# Altium integrated library ST Microcontroller 8-Bit.IntLib: 1326 symbols (part 1 of 45)
Pins are listed as number, name and electrical type; pins without a type are passive.

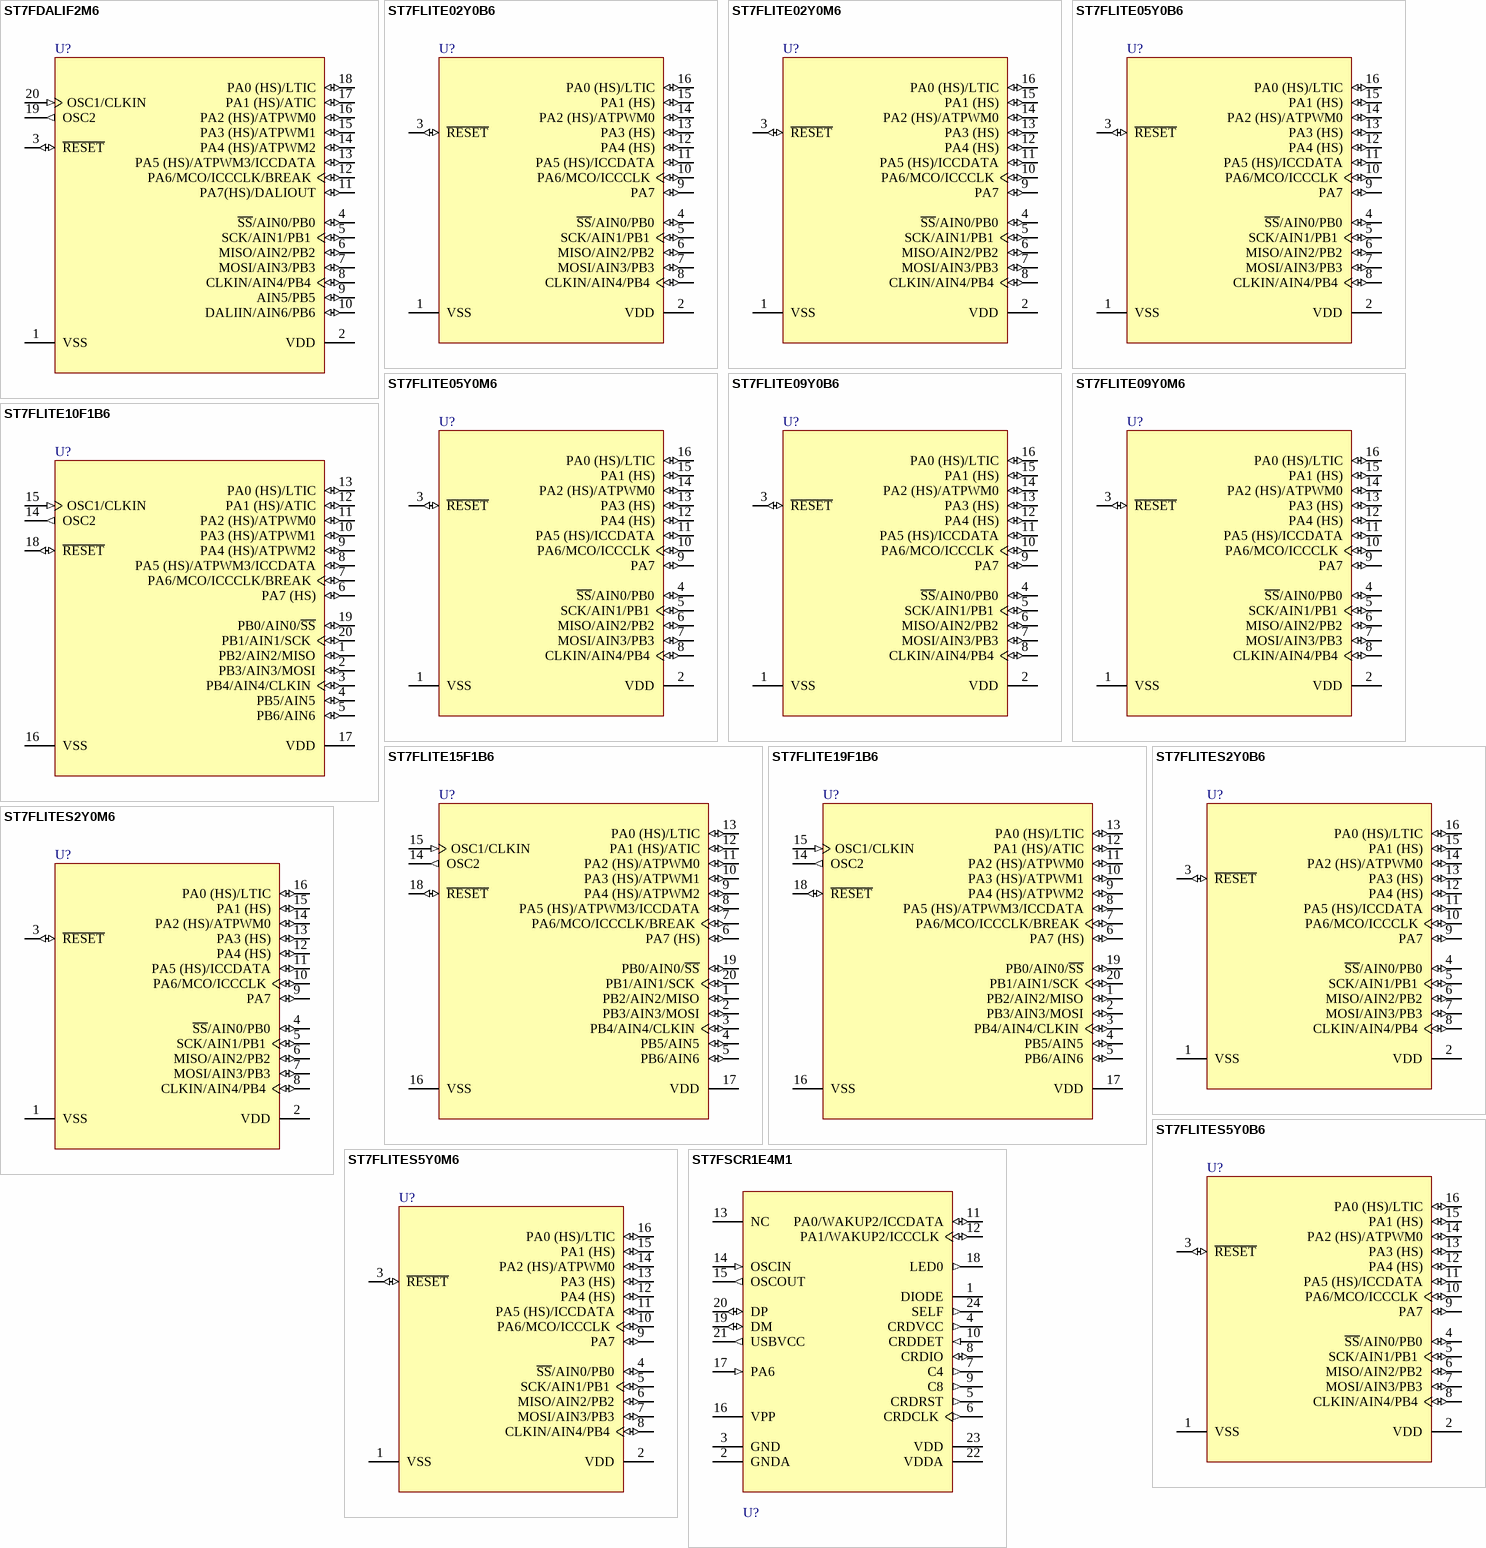
[diagram p0: symbols ST7FDALIF2M6 to ST7FSCR1E4M1]

## ST7FDALIF2M6
designator U?
8-Bit MCU with 8k Single Voltage FLASH Memory, 384b RAM, Data EEPROM, 10-Bit ADC, Timers, SPI and DALI, 20-Pin SOIC; Note: Pins 4-18 are External Interrupt (EI) pins.; Published: 26-May-2004; LatestRevisionDate: 13-Apr-2006; LatestRevisionNote: IPC-7351 Footprint Added.; DatasheetVersion: rev1.3, Aug-2003; PackageVersion: Jul-2001; PackageReference: SO20; Publisher: Altium Limited; PackageDescription: 20-Pin Plastic Small Outline Integrated Circuit 1.27 mm Pitch; Code_JEDEC: MS-013-AC; Code_IPC: SOIC127P1030-20; ComponentLink1Description: Manufacturer Link; ComponentLink1URL: http://www.st.com/; ComponentLink2Description: Datasheet; ComponentLink2URL: http://www.st.com/stonline/products/literature/ds/9480/st7dali.pdf
footprint SO20_N (SOIC, 20-Leads, Body 12.8x7.5mm, Pitch 1.27mm, IPC Medium Density)
footprint SO20_L (SOIC, 20-Leads, Body 12.8x7.5mm, Pitch 1.27mm, IPC High Density)
footprint SO20_M (SOIC, 20-Leads, Body 12.8x7.5mm, Pitch 1.27mm, IPC Low Density)
3D model SO20 (20-Pin Plastic Small Outline Integrated Circuit 1.27 mm Pitch)
pins: 1 VSS (power), 2 VDD (power), 3 ~{RESET} (io), 4 ~{SS}/AIN0/PB0 (io), 5 SCK/AIN1/PB1 (io), 6 MISO/AIN2/PB2 (io), 7 MOSI/AIN3/PB3 (io), 8 CLKIN/AIN4/PB4 (io), 9 AIN5/PB5 (io), 10 DALIIN/AIN6/PB6 (io), 11 PA7(HS)/DALIOUT (io), 12 PA6/MCO/ICCCLK/BREAK (io), 13 PA5 (HS)/ATPWM3/ICCDATA (io), 14 PA4 (HS)/ATPWM2 (io), 15 PA3 (HS)/ATPWM1 (io), 16 PA2 (HS)/ATPWM0 (io), 17 PA1 (HS)/ATIC (io), 18 PA0 (HS)/LTIC (io), 19 OSC2 (out), 20 OSC1/CLKIN (in)

## ST7FLITE02Y0B6
designator U?
8-Bit MCU with 1.5k Single Voltage FLASH Memory, 128b RAM, Timers and SPI, 16-Pin DIP; Note: Pins 4, 7, 9 and 16 are External Interrupt (EI) pins.; Published: 26-May-2004; LatestRevisionDate: 06-Jun-2005; LatestRevisionNote: Stylized 3D Model Added.; DatasheetVersion: rev2.5, Dec-2003; PackageVersion: Dec-2003; PackageReference: PDIP16; Publisher: Altium Limited; PackageDescription: DIP; 16 Leads; Row Spacing 7.62 mm; Pitch 2.54 mm; ComponentLink1Description: Manufacturer Link; ComponentLink1URL: http://www.st.com/; ComponentLink2Description: Datasheet; ComponentLink2URL: http://www.st.com/stonline/products/literature/ds/8348/st7lite0.pdf
footprint PDIP16 (DIP; 16 Leads; Row Spacing 7.62 mm; Pitch 2.54 mm)
3D model PDIP16 (DIP; 16 Leads; Row Spacing 7.62 mm; Pitch 2.54 mm)
pins: 1 VSS (power), 2 VDD (power), 3 ~{RESET} (io), 4 ~{SS}/AIN0/PB0 (io), 5 SCK/AIN1/PB1 (io), 6 MISO/AIN2/PB2 (io), 7 MOSI/AIN3/PB3 (io), 8 CLKIN/AIN4/PB4 (io), 9 PA7 (io), 10 PA6/MCO/ICCCLK (io), 11 PA5 (HS)/ICCDATA (io), 12 PA4 (HS) (io), 13 PA3 (HS) (io), 14 PA2 (HS)/ATPWM0 (io), 15 PA1 (HS) (io), 16 PA0 (HS)/LTIC (io)

## ST7FLITE02Y0M6
designator U?
8-Bit MCU with 1.5k Single Voltage FLASH Memory, 128b RAM, Timers and SPI, 16-Pin SOIC; Note: Pins 4, 7, 9 and 16 are External Interrupt (EI) pins.; Published: 26-May-2004; LatestRevisionDate: 13-Apr-2006; LatestRevisionNote: IPC-7351 Footprint Added.; DatasheetVersion: rev2.5, Dec-2003; PackageVersion: Dec-2003; PackageReference: PSO16; Publisher: Altium Limited; PackageDescription: 16-Pin Plastic Small Outline Integrated Circuit 1.27 mm Pitch; Code_JEDEC: MS-012-AC; Code_IPC: SOIC127P600-16; ComponentLink1Description: Manufacturer Link; ComponentLink1URL: http://www.st.com/; ComponentLink2Description: Datasheet; ComponentLink2URL: http://www.st.com/stonline/products/literature/ds/8348/st7lite0.pdf
footprint PSO16_N (SOIC, 16-Leads, Body 9.9x3.9mm, Pitch 1.27mm, IPC Medium Density)
footprint PSO16_L (SOIC, 16-Leads, Body 9.9x3.9mm, Pitch 1.27mm, IPC High Density)
footprint PSO16_M (SOIC, 16-Leads, Body 9.9x3.9mm, Pitch 1.27mm, IPC Low Density)
3D model PSO16 (16-Pin Plastic Small Outline Integrated Circuit 1.27 mm Pitch)
pins: 1 VSS (power), 2 VDD (power), 3 ~{RESET} (io), 4 ~{SS}/AIN0/PB0 (io), 5 SCK/AIN1/PB1 (io), 6 MISO/AIN2/PB2 (io), 7 MOSI/AIN3/PB3 (io), 8 CLKIN/AIN4/PB4 (io), 9 PA7 (io), 10 PA6/MCO/ICCCLK (io), 11 PA5 (HS)/ICCDATA (io), 12 PA4 (HS) (io), 13 PA3 (HS) (io), 14 PA2 (HS)/ATPWM0 (io), 15 PA1 (HS) (io), 16 PA0 (HS)/LTIC (io)

## ST7FLITE05Y0B6
designator U?
8-Bit MCU with 1.5k Single Voltage FLASH Memory, 128b RAM, 8-Bit ADC with Op-Amp, Timers and SPI, 16-Pin DIP; Note: Pins 4, 7, 9 and 16 are External Interrupt (EI) pins.; Published: 26-May-2004; LatestRevisionDate: 06-Jun-2005; LatestRevisionNote: Stylized 3D Model Added.; DatasheetVersion: rev2.5, Dec-2003; PackageVersion: Dec-2003; PackageReference: PDIP16; Publisher: Altium Limited; PackageDescription: DIP; 16 Leads; Row Spacing 7.62 mm; Pitch 2.54 mm; ComponentLink1Description: Manufacturer Link; ComponentLink1URL: http://www.st.com/; ComponentLink2Description: Datasheet; ComponentLink2URL: http://www.st.com/stonline/products/literature/ds/8348/st7lite0.pdf
footprint PDIP16 (DIP; 16 Leads; Row Spacing 7.62 mm; Pitch 2.54 mm)
3D model PDIP16 (DIP; 16 Leads; Row Spacing 7.62 mm; Pitch 2.54 mm)
pins: 1 VSS (power), 2 VDD (power), 3 ~{RESET} (io), 4 ~{SS}/AIN0/PB0 (io), 5 SCK/AIN1/PB1 (io), 6 MISO/AIN2/PB2 (io), 7 MOSI/AIN3/PB3 (io), 8 CLKIN/AIN4/PB4 (io), 9 PA7 (io), 10 PA6/MCO/ICCCLK (io), 11 PA5 (HS)/ICCDATA (io), 12 PA4 (HS) (io), 13 PA3 (HS) (io), 14 PA2 (HS)/ATPWM0 (io), 15 PA1 (HS) (io), 16 PA0 (HS)/LTIC (io)

## ST7FLITE05Y0M6
designator U?
8-Bit MCU with 1.5k Single Voltage FLASH Memory, 128b RAM, 8-Bit ADC with Op-Amp, Timers and SPI, 16-Pin SOIC; Note: Pins 4, 7, 9 and 16 are External Interrupt (EI) pins.; Published: 26-May-2004; LatestRevisionDate: 13-Apr-2006; LatestRevisionNote: IPC-7351 Footprint Added.; DatasheetVersion: rev2.5, Dec-2003; PackageVersion: Dec-2003; PackageReference: PSO16; Publisher: Altium Limited; PackageDescription: 16-Pin Plastic Small Outline Integrated Circuit 1.27 mm Pitch; Code_JEDEC: MS-012-AC; Code_IPC: SOIC127P600-16; ComponentLink1Description: Manufacturer Link; ComponentLink1URL: http://www.st.com/; ComponentLink2Description: Datasheet; ComponentLink2URL: http://www.st.com/stonline/products/literature/ds/8348/st7lite0.pdf
footprint PSO16_N (SOIC, 16-Leads, Body 9.9x3.9mm, Pitch 1.27mm, IPC Medium Density)
footprint PSO16_L (SOIC, 16-Leads, Body 9.9x3.9mm, Pitch 1.27mm, IPC High Density)
footprint PSO16_M (SOIC, 16-Leads, Body 9.9x3.9mm, Pitch 1.27mm, IPC Low Density)
3D model PSO16 (16-Pin Plastic Small Outline Integrated Circuit 1.27 mm Pitch)
pins: 1 VSS (power), 2 VDD (power), 3 ~{RESET} (io), 4 ~{SS}/AIN0/PB0 (io), 5 SCK/AIN1/PB1 (io), 6 MISO/AIN2/PB2 (io), 7 MOSI/AIN3/PB3 (io), 8 CLKIN/AIN4/PB4 (io), 9 PA7 (io), 10 PA6/MCO/ICCCLK (io), 11 PA5 (HS)/ICCDATA (io), 12 PA4 (HS) (io), 13 PA3 (HS) (io), 14 PA2 (HS)/ATPWM0 (io), 15 PA1 (HS) (io), 16 PA0 (HS)/LTIC (io)

## ST7FLITE09Y0B6
designator U?
8-Bit MCU with 1.5k Single Voltage FLASH Memory, 128b RAM, Data EEPROM, 8-Bit ADC with Op-Amp, Timers and SPI, 16-Pin DIP; Note: Pins 4, 7, 9 and 16 are External Interrupt (EI) pins.; Published: 26-May-2004; LatestRevisionDate: 06-Jun-2005; LatestRevisionNote: Stylized 3D Model Added.; DatasheetVersion: rev2.5, Dec-2003; PackageVersion: Dec-2003; PackageReference: PDIP16; Publisher: Altium Limited; PackageDescription: DIP; 16 Leads; Row Spacing 7.62 mm; Pitch 2.54 mm; ComponentLink1Description: Manufacturer Link; ComponentLink1URL: http://www.st.com/; ComponentLink2Description: Datasheet; ComponentLink2URL: http://www.st.com/stonline/products/literature/ds/8348/st7lite0.pdf
footprint PDIP16 (DIP; 16 Leads; Row Spacing 7.62 mm; Pitch 2.54 mm)
3D model PDIP16 (DIP; 16 Leads; Row Spacing 7.62 mm; Pitch 2.54 mm)
pins: 1 VSS (power), 2 VDD (power), 3 ~{RESET} (io), 4 ~{SS}/AIN0/PB0 (io), 5 SCK/AIN1/PB1 (io), 6 MISO/AIN2/PB2 (io), 7 MOSI/AIN3/PB3 (io), 8 CLKIN/AIN4/PB4 (io), 9 PA7 (io), 10 PA6/MCO/ICCCLK (io), 11 PA5 (HS)/ICCDATA (io), 12 PA4 (HS) (io), 13 PA3 (HS) (io), 14 PA2 (HS)/ATPWM0 (io), 15 PA1 (HS) (io), 16 PA0 (HS)/LTIC (io)

## ST7FLITE09Y0M6
designator U?
8-Bit MCU with 1.5k Single Voltage FLASH Memory, 128b RAM, Data EEPROM, 8-Bit ADC with Op-Amp, Timers and SPI, 16-Pin SOIC; Note: Pins 4, 7, 9 and 16 are External Interrupt (EI) pins.; Published: 26-May-2004; LatestRevisionDate: 13-Apr-2006; LatestRevisionNote: IPC-7351 Footprint Added.; DatasheetVersion: rev2.5, Dec-2003; PackageVersion: Dec-2003; PackageReference: PSO16; Publisher: Altium Limited; PackageDescription: 16-Pin Plastic Small Outline Integrated Circuit 1.27 mm Pitch; Code_JEDEC: MS-012-AC; Code_IPC: SOIC127P600-16; ComponentLink1Description: Manufacturer Link; ComponentLink1URL: http://www.st.com/; ComponentLink2Description: Datasheet; ComponentLink2URL: http://www.st.com/stonline/products/literature/ds/8348/st7lite0.pdf
footprint PSO16_N (SOIC, 16-Leads, Body 9.9x3.9mm, Pitch 1.27mm, IPC Medium Density)
footprint PSO16_L (SOIC, 16-Leads, Body 9.9x3.9mm, Pitch 1.27mm, IPC High Density)
footprint PSO16_M (SOIC, 16-Leads, Body 9.9x3.9mm, Pitch 1.27mm, IPC Low Density)
3D model PSO16 (16-Pin Plastic Small Outline Integrated Circuit 1.27 mm Pitch)
pins: 1 VSS (power), 2 VDD (power), 3 ~{RESET} (io), 4 ~{SS}/AIN0/PB0 (io), 5 SCK/AIN1/PB1 (io), 6 MISO/AIN2/PB2 (io), 7 MOSI/AIN3/PB3 (io), 8 CLKIN/AIN4/PB4 (io), 9 PA7 (io), 10 PA6/MCO/ICCCLK (io), 11 PA5 (HS)/ICCDATA (io), 12 PA4 (HS) (io), 13 PA3 (HS) (io), 14 PA2 (HS)/ATPWM0 (io), 15 PA1 (HS) (io), 16 PA0 (HS)/LTIC (io)

## ST7FLITE10F1B6
designator U?
8-Bit MCU with 4k Single Voltage FLASH Memory, 256b RAM, 10-Bit ADC with Op-Amp, Four Timers and SPI, 20-Pin DIP; Note: Pins 1-13, 19 and 20 are External Interrupt (EI) pins.; Published: 26-May-2004; LatestRevisionDate: 06-Jun-2005; LatestRevisionNote: Stylized 3D Model Added.; DatasheetVersion: rev1.3, Jul-2003; PackageVersion: Jul-2003; PackageReference: PDIP20; Publisher: Altium Limited; PackageDescription: DIP; 20 Leads; Row Spacing 7.62 mm; Pitch 2.54 mm; Code_JEDEC: MS-001-AD; ComponentLink1Description: Manufacturer Link; ComponentLink1URL: http://www.st.com/; ComponentLink2Description: Datasheet; ComponentLink2URL: http://www.st.com/stonline/products/literature/ds/9542/st7lite1.pdf
footprint PDIP20 (DIP; 20 Leads; Row Spacing 7.62 mm; Pitch 2.54 mm)
3D model PDIP20 (DIP; 20 Leads; Row Spacing 7.62 mm; Pitch 2.54 mm)
pins: 1 PB2/AIN2/MISO (io), 2 PB3/AIN3/MOSI (io), 3 PB4/AIN4/CLKIN (io), 4 PB5/AIN5 (io), 5 PB6/AIN6 (io), 6 PA7 (HS) (io), 7 PA6/MCO/ICCCLK/BREAK (io), 8 PA5 (HS)/ATPWM3/ICCDATA (io), 9 PA4 (HS)/ATPWM2 (io), 10 PA3 (HS)/ATPWM1 (io), 11 PA2 (HS)/ATPWM0 (io), 12 PA1 (HS)/ATIC (io), 13 PA0 (HS)/LTIC (io), 14 OSC2 (out), 15 OSC1/CLKIN (in), 16 VSS (power), 17 VDD (power), 18 ~{RESET} (io), 19 PB0/AIN0/~{SS} (io), 20 PB1/AIN1/SCK (io)

## ST7FLITE15F1B6
designator U?
8-Bit MCU with 4k Single Voltage FLASH Memory, 256b RAM, 10-Bit ADC with Op-Amp, Four Timers and SPI, 20-Pin DIP; Note: Pins 1-13, 19 and 20 are External Interrupt (EI) pins.; Published: 26-May-2004; LatestRevisionDate: 06-Jun-2005; LatestRevisionNote: Stylized 3D Model Added.; DatasheetVersion: rev1.3, Jul-2003; PackageVersion: Jul-2003; PackageReference: PDIP20; Publisher: Altium Limited; PackageDescription: DIP; 20 Leads; Row Spacing 7.62 mm; Pitch 2.54 mm; Code_JEDEC: MS-001-AD; ComponentLink1Description: Manufacturer Link; ComponentLink1URL: http://www.st.com/; ComponentLink2Description: Datasheet; ComponentLink2URL: http://www.st.com/stonline/products/literature/ds/9542/st7lite1.pdf
footprint PDIP20 (DIP; 20 Leads; Row Spacing 7.62 mm; Pitch 2.54 mm)
3D model PDIP20 (DIP; 20 Leads; Row Spacing 7.62 mm; Pitch 2.54 mm)
pins: 1 PB2/AIN2/MISO (io), 2 PB3/AIN3/MOSI (io), 3 PB4/AIN4/CLKIN (io), 4 PB5/AIN5 (io), 5 PB6/AIN6 (io), 6 PA7 (HS) (io), 7 PA6/MCO/ICCCLK/BREAK (io), 8 PA5 (HS)/ATPWM3/ICCDATA (io), 9 PA4 (HS)/ATPWM2 (io), 10 PA3 (HS)/ATPWM1 (io), 11 PA2 (HS)/ATPWM0 (io), 12 PA1 (HS)/ATIC (io), 13 PA0 (HS)/LTIC (io), 14 OSC2 (out), 15 OSC1/CLKIN (in), 16 VSS (power), 17 VDD (power), 18 ~{RESET} (io), 19 PB0/AIN0/~{SS} (io), 20 PB1/AIN1/SCK (io)

## ST7FLITE19F1B6
designator U?
8-Bit MCU with 4k Single Voltage FLASH Memory, 256b RAM, Data EEPROM, 10-Bit ADC with Op-Amp, Four Timers and SPI, 20-Pin DIP; Note: Pins 1-13, 19 and 20 are External Interrupt (EI) pins.; Published: 26-May-2004; LatestRevisionDate: 06-Jun-2005; LatestRevisionNote: Stylized 3D Model Added.; DatasheetVersion: rev1.3, Jul-2003; PackageVersion: Jul-2003; PackageReference: PDIP20; Publisher: Altium Limited; PackageDescription: DIP; 20 Leads; Row Spacing 7.62 mm; Pitch 2.54 mm; Code_JEDEC: MS-001-AD; ComponentLink1Description: Manufacturer Link; ComponentLink1URL: http://www.st.com/; ComponentLink2Description: Datasheet; ComponentLink2URL: http://www.st.com/stonline/products/literature/ds/9542/st7lite1.pdf
footprint PDIP20 (DIP; 20 Leads; Row Spacing 7.62 mm; Pitch 2.54 mm)
3D model PDIP20 (DIP; 20 Leads; Row Spacing 7.62 mm; Pitch 2.54 mm)
pins: 1 PB2/AIN2/MISO (io), 2 PB3/AIN3/MOSI (io), 3 PB4/AIN4/CLKIN (io), 4 PB5/AIN5 (io), 5 PB6/AIN6 (io), 6 PA7 (HS) (io), 7 PA6/MCO/ICCCLK/BREAK (io), 8 PA5 (HS)/ATPWM3/ICCDATA (io), 9 PA4 (HS)/ATPWM2 (io), 10 PA3 (HS)/ATPWM1 (io), 11 PA2 (HS)/ATPWM0 (io), 12 PA1 (HS)/ATIC (io), 13 PA0 (HS)/LTIC (io), 14 OSC2 (out), 15 OSC1/CLKIN (in), 16 VSS (power), 17 VDD (power), 18 ~{RESET} (io), 19 PB0/AIN0/~{SS} (io), 20 PB1/AIN1/SCK (io)

## ST7FLITES2Y0B6
designator U?
8-Bit MCU with 1k Single Voltage FLASH Memory, 128b RAM, Timers and SPI, 16-Pin DIP; Note: Pins 4, 7, 9 and 16 are External Interrupt (EI) pins.; Published: 26-May-2004; LatestRevisionDate: 06-Jun-2005; LatestRevisionNote: Stylized 3D Model Added.; DatasheetVersion: rev2.5, Dec-2003; PackageVersion: Dec-2003; PackageReference: PDIP16; Publisher: Altium Limited; PackageDescription: DIP; 16 Leads; Row Spacing 7.62 mm; Pitch 2.54 mm; ComponentLink1Description: Manufacturer Link; ComponentLink1URL: http://www.st.com/; ComponentLink2Description: Datasheet; ComponentLink2URL: http://www.st.com/stonline/products/literature/ds/8348/st7lites.pdf
footprint PDIP16 (DIP; 16 Leads; Row Spacing 7.62 mm; Pitch 2.54 mm)
3D model PDIP16 (DIP; 16 Leads; Row Spacing 7.62 mm; Pitch 2.54 mm)
pins: 1 VSS (power), 2 VDD (power), 3 ~{RESET} (io), 4 ~{SS}/AIN0/PB0 (io), 5 SCK/AIN1/PB1 (io), 6 MISO/AIN2/PB2 (io), 7 MOSI/AIN3/PB3 (io), 8 CLKIN/AIN4/PB4 (io), 9 PA7 (io), 10 PA6/MCO/ICCCLK (io), 11 PA5 (HS)/ICCDATA (io), 12 PA4 (HS) (io), 13 PA3 (HS) (io), 14 PA2 (HS)/ATPWM0 (io), 15 PA1 (HS) (io), 16 PA0 (HS)/LTIC (io)

## ST7FLITES2Y0M6
designator U?
8-Bit MCU with 1k Single Voltage FLASH Memory, 128b RAM, Timers and SPI, 16-Pin SOIC; Note: Pins 4, 7, 9 and 16 are External Interrupt (EI) pins.; Published: 26-May-2004; LatestRevisionDate: 13-Apr-2006; LatestRevisionNote: IPC-7351 Footprint Added.; DatasheetVersion: rev2.5, Dec-2003; PackageVersion: Dec-2003; PackageReference: PSO16; Publisher: Altium Limited; PackageDescription: 16-Pin Plastic Small Outline Integrated Circuit 1.27 mm Pitch; Code_JEDEC: MS-012-AC; Code_IPC: SOIC127P600-16; ComponentLink1Description: Manufacturer Link; ComponentLink1URL: http://www.st.com/; ComponentLink2Description: Datasheet; ComponentLink2URL: http://www.st.com/stonline/products/literature/ds/8348/st7lites.pdf
footprint PSO16_N (SOIC, 16-Leads, Body 9.9x3.9mm, Pitch 1.27mm, IPC Medium Density)
footprint PSO16_L (SOIC, 16-Leads, Body 9.9x3.9mm, Pitch 1.27mm, IPC High Density)
footprint PSO16_M (SOIC, 16-Leads, Body 9.9x3.9mm, Pitch 1.27mm, IPC Low Density)
3D model PSO16 (16-Pin Plastic Small Outline Integrated Circuit 1.27 mm Pitch)
pins: 1 VSS (power), 2 VDD (power), 3 ~{RESET} (io), 4 ~{SS}/AIN0/PB0 (io), 5 SCK/AIN1/PB1 (io), 6 MISO/AIN2/PB2 (io), 7 MOSI/AIN3/PB3 (io), 8 CLKIN/AIN4/PB4 (io), 9 PA7 (io), 10 PA6/MCO/ICCCLK (io), 11 PA5 (HS)/ICCDATA (io), 12 PA4 (HS) (io), 13 PA3 (HS) (io), 14 PA2 (HS)/ATPWM0 (io), 15 PA1 (HS) (io), 16 PA0 (HS)/LTIC (io)

## ST7FLITES5Y0B6
designator U?
8-Bit MCU with 1k Single Voltage FLASH Memory, 128b RAM, 8-Bit ADC, Timers and SPI, 16-Pin DIP; Note: Pins 4, 7, 9 and 16 are External Interrupt (EI) pins.; Published: 26-May-2004; LatestRevisionDate: 06-Jun-2005; LatestRevisionNote: Stylized 3D Model Added.; DatasheetVersion: rev2.5, Dec-2003; PackageVersion: Dec-2003; PackageReference: PDIP16; Publisher: Altium Limited; PackageDescription: DIP; 16 Leads; Row Spacing 7.62 mm; Pitch 2.54 mm; ComponentLink1Description: Manufacturer Link; ComponentLink1URL: http://www.st.com/; ComponentLink2Description: Datasheet; ComponentLink2URL: http://www.st.com/stonline/products/literature/ds/8348/st7lites.pdf
footprint PDIP16 (DIP; 16 Leads; Row Spacing 7.62 mm; Pitch 2.54 mm)
3D model PDIP16 (DIP; 16 Leads; Row Spacing 7.62 mm; Pitch 2.54 mm)
pins: 1 VSS (power), 2 VDD (power), 3 ~{RESET} (io), 4 ~{SS}/AIN0/PB0 (io), 5 SCK/AIN1/PB1 (io), 6 MISO/AIN2/PB2 (io), 7 MOSI/AIN3/PB3 (io), 8 CLKIN/AIN4/PB4 (io), 9 PA7 (io), 10 PA6/MCO/ICCCLK (io), 11 PA5 (HS)/ICCDATA (io), 12 PA4 (HS) (io), 13 PA3 (HS) (io), 14 PA2 (HS)/ATPWM0 (io), 15 PA1 (HS) (io), 16 PA0 (HS)/LTIC (io)

## ST7FLITES5Y0M6
designator U?
8-Bit MCU with 1k Single Voltage FLASH Memory, 128b RAM, 8-Bit ADC, Timers and SPI, 16-Pin SOIC; Note: Pins 4, 7, 9 and 16 are External Interrupt (EI) pins.; Published: 26-May-2004; LatestRevisionDate: 13-Apr-2006; LatestRevisionNote: IPC-7351 Footprint Added.; DatasheetVersion: rev2.5, Dec-2003; PackageVersion: Dec-2003; PackageReference: PSO16; Publisher: Altium Limited; PackageDescription: 16-Pin Plastic Small Outline Integrated Circuit 1.27 mm Pitch; Code_JEDEC: MS-012-AC; Code_IPC: SOIC127P600-16; ComponentLink1Description: Manufacturer Link; ComponentLink1URL: http://www.st.com/; ComponentLink2Description: Datasheet; ComponentLink2URL: http://www.st.com/stonline/products/literature/ds/8348/st7lites.pdf
footprint PSO16_N (SOIC, 16-Leads, Body 9.9x3.9mm, Pitch 1.27mm, IPC Medium Density)
footprint PSO16_L (SOIC, 16-Leads, Body 9.9x3.9mm, Pitch 1.27mm, IPC High Density)
footprint PSO16_M (SOIC, 16-Leads, Body 9.9x3.9mm, Pitch 1.27mm, IPC Low Density)
3D model PSO16 (16-Pin Plastic Small Outline Integrated Circuit 1.27 mm Pitch)
pins: 1 VSS (power), 2 VDD (power), 3 ~{RESET} (io), 4 ~{SS}/AIN0/PB0 (io), 5 SCK/AIN1/PB1 (io), 6 MISO/AIN2/PB2 (io), 7 MOSI/AIN3/PB3 (io), 8 CLKIN/AIN4/PB4 (io), 9 PA7 (io), 10 PA6/MCO/ICCCLK (io), 11 PA5 (HS)/ICCDATA (io), 12 PA4 (HS) (io), 13 PA3 (HS) (io), 14 PA2 (HS)/ATPWM0 (io), 15 PA1 (HS) (io), 16 PA0 (HS)/LTIC (io)

## ST7FSCR1E4M1
designator U?
8-Bit MCU with 16k FLASH, 768b RAM, Full-Speed USB, 8-Bit ADC, Low Power, Smartcard I/F, Timer, 24-Pin SOIC; Published: 26-May-2004; LatestRevisionDate: 13-Apr-2006; LatestRevisionNote: IPC-7351 Footprint Added.; DatasheetVersion: rev1.3, Mar-2003; PackageVersion: Oct-2001; PackageReference: SO24; Publisher: Altium Limited; PackageDescription: 24-Pin Plastic Small Outline Integrated Circuit 1.27 mm Pitch; ComponentLink1Description: Manufacturer Link; ComponentLink1URL: http://www.st.com/
footprint SO24_N (SOIC, 24-Leads, Body 15.4x7.5mm, Pitch 1.27mm, IPC Medium Density)
footprint SO24_L (SOIC, 24-Leads, Body 15.4x7.5mm, Pitch 1.27mm, IPC High Density)
footprint SO24_M (SOIC, 24-Leads, Body 15.4x7.5mm, Pitch 1.27mm, IPC Low Density)
3D model SO24 (24-Pin Plastic Small Outline Integrated Circuit 1.27 mm Pitch)
pins: 1 DIODE (power), 2 GNDA (power), 3 GND (power), 4 CRDVCC (out), 5 CRDRST (out), 6 CRDCLK (out), 7 C4 (out), 8 CRDIO (io), 9 C8 (out), 10 CRDDET (in), 11 PA0/WAKUP2/ICCDATA (io), 12 PA1/WAKUP2/ICCCLK (io), 13 NC, 14 OSCIN (in), 15 OSCOUT (out), 16 VPP (power), 17 PA6 (in), 18 LED0 (out), 19 DM (io), 20 DP (io), 21 USBVCC (out), 22 VDDA (power), 23 VDD (power), 24 SELF (out)

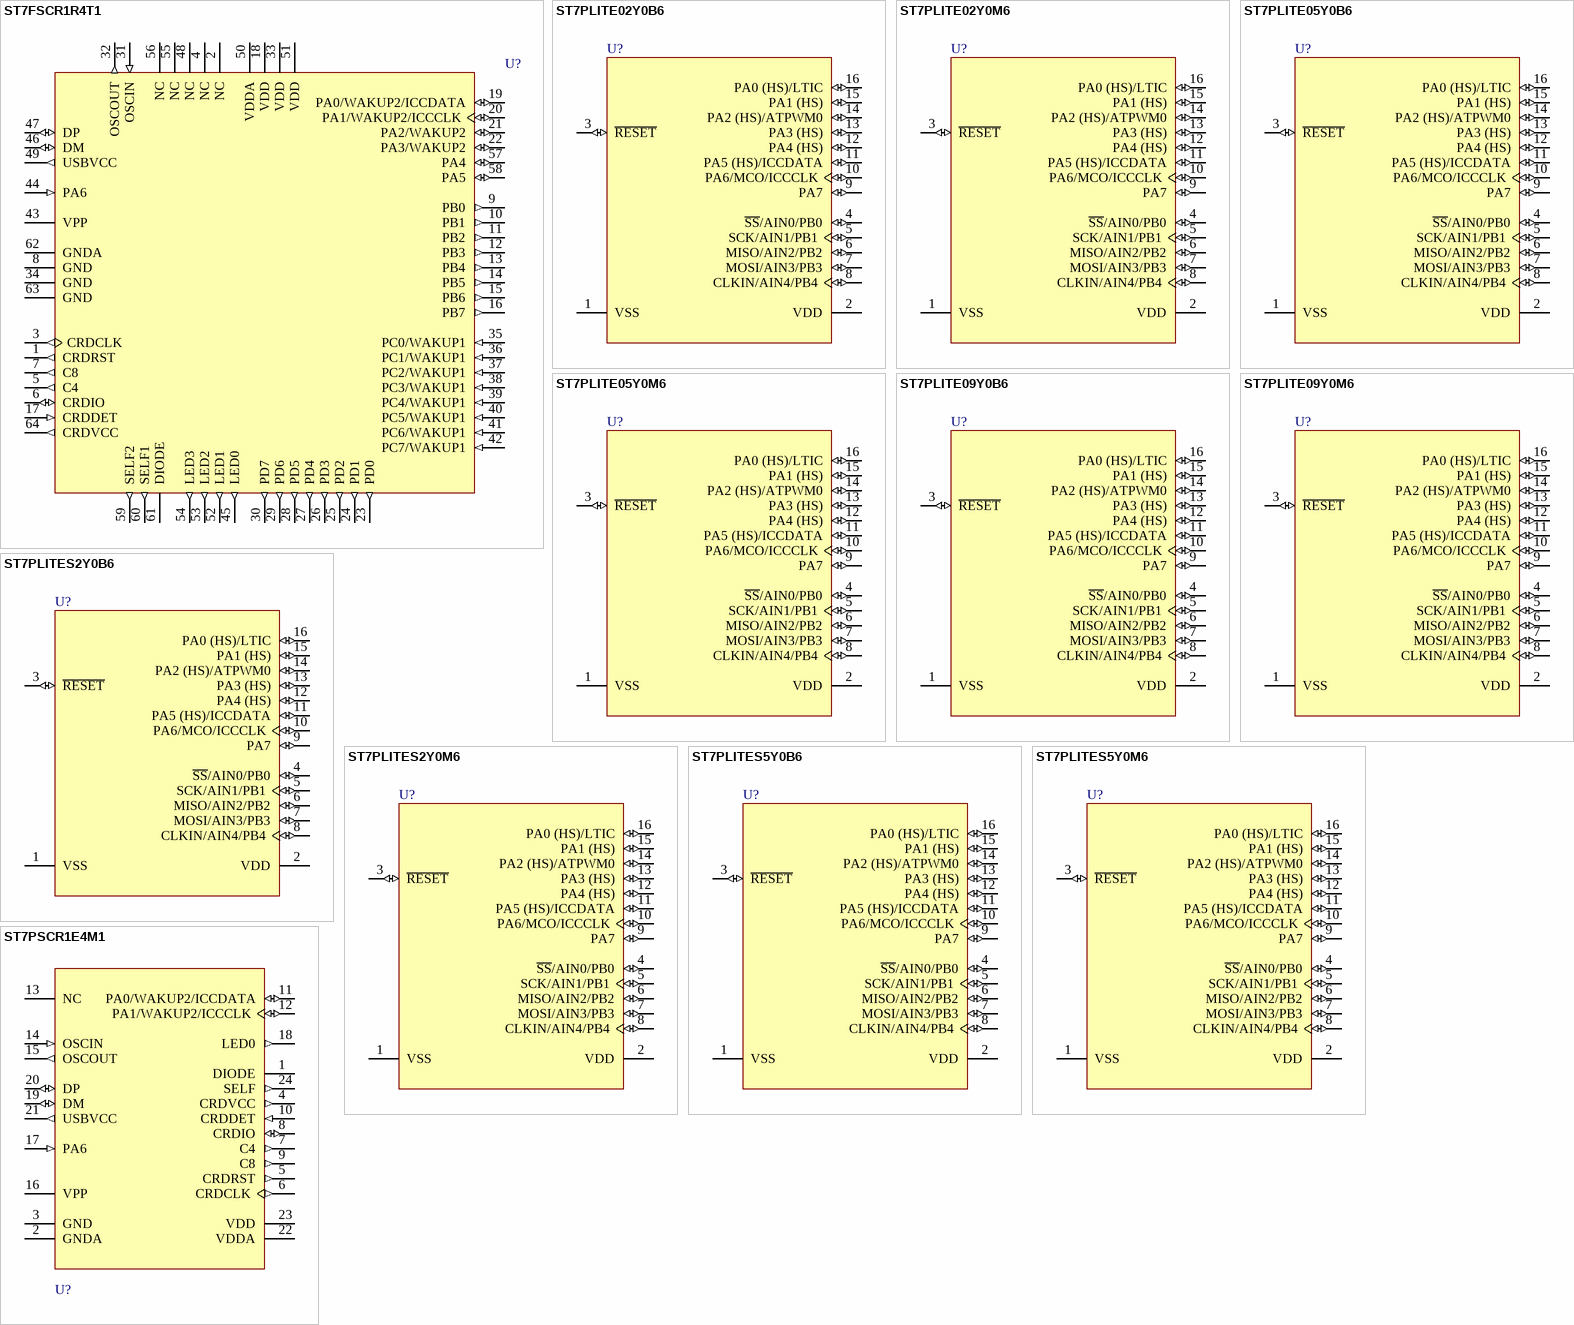
[diagram p1: symbols ST7FSCR1R4T1 to ST7PSCR1E4M1]

## ST7FSCR1R4T1
designator U?
8-Bit MCU with 16k FLASH, 768b RAM, Full-Speed USB, 8-Bit ADC, Low Power, Smartcard I/F, Timer, 64-Pin TQFP; Note: Pins 35-42 are External Interrupt (EI) pins.; Published: 26-May-2004; LatestRevisionDate: 13-Apr-2006; LatestRevisionNote: IPC-7351 Footprint Added.; DatasheetVersion: rev1.3, Mar-2003; PackageVersion: rev2.4, Jan-2002; PackageReference: TQFP64-0.8; Publisher: Altium Limited; PackageDescription: 64-Pin Thin Quad Flat Pack 0.8 mm Pitch; ComponentLink1Description: Manufacturer Link; ComponentLink1URL: http://www.st.com/
footprint TQFP64-0.8_N (Thin QFP, 64-Leads, Body 14x14mm, Pitch 0.8mm, IPC Medium Density)
footprint TQFP64-0.8_L (Thin QFP, 64-Leads, Body 14x14mm, Pitch 0.8mm, IPC High Density)
footprint TQFP64-0.8_M (Thin QFP, 64-Leads, Body 14x14mm, Pitch 0.8mm, IPC Low Density)
3D model ST7FSCR-TQFP64-0_8 (64-Pin Thin Quad Flat Pack 0.8 mm Pitch)
pins: 1 CRDRST (out), 2 NC, 3 CRDCLK (out), 4 NC, 5 C4 (out), 6 CRDIO (io), 7 C8 (out), 8 GND (power), 9 PB0 (out), 10 PB1 (out), 11 PB2 (out), 12 PB3 (out), 13 PB4 (out), 14 PB5 (out), 15 PB6 (out), 16 PB7 (out), 17 CRDDET (in), 18 VDD (power), 19 PA0/WAKUP2/ICCDATA (io), 20 PA1/WAKUP2/ICCCLK (io), 21 PA2/WAKUP2 (io), 22 PA3/WAKUP2 (io), 23 PD0 (out), 24 PD1 (out), 25 PD2 (out), 26 PD3 (out), 27 PD4 (out), 28 PD5 (out), 29 PD6 (out), 30 PD7 (out), 31 OSCIN (in), 32 OSCOUT (out), 33 VDD (power), 34 GND (power), 35 PC0/WAKUP1 (in), 36 PC1/WAKUP1 (in), 37 PC2/WAKUP1 (in), 38 PC3/WAKUP1 (in), 39 PC4/WAKUP1 (in), 40 PC5/WAKUP1 (in), 41 PC6/WAKUP1 (in), 42 PC7/WAKUP1 (in), 43 VPP (power), 44 PA6 (in), 45 LED0 (out), 46 DM (io), 47 DP (io), 48 NC, 49 USBVCC (out), 50 VDDA (power), 51 VDD (power), 52 LED1 (out), 53 LED2 (out), 54 LED3 (out), 55 NC, 56 NC, 57 PA4 (io), 58 PA5 (io), 59 SELF2 (out), 60 SELF1 (out), 61 DIODE (power), 62 GNDA (power), 63 GND (power), 64 CRDVCC (out)

## ST7PLITE02Y0B6
designator U?
8-Bit MCU with 1.5k Single Voltage FASTROM Memory, 128b RAM, Timers and SPI, 16-Pin DIP; Note: Pins 4, 7, 9 and 16 are External Interrupt (EI) pins.; Published: 26-May-2004; LatestRevisionDate: 06-Jun-2005; LatestRevisionNote: Stylized 3D Model Added.; DatasheetVersion: rev2.5, Dec-2003; PackageVersion: Dec-2003; PackageReference: PDIP16; Publisher: Altium Limited; PackageDescription: DIP; 16 Leads; Row Spacing 7.62 mm; Pitch 2.54 mm; ComponentLink1Description: Manufacturer Link; ComponentLink1URL: http://www.st.com/; ComponentLink2Description: Datasheet; ComponentLink2URL: http://www.st.com/stonline/products/literature/ds/8348/st7lite0.pdf
footprint PDIP16 (DIP; 16 Leads; Row Spacing 7.62 mm; Pitch 2.54 mm)
3D model PDIP16 (DIP; 16 Leads; Row Spacing 7.62 mm; Pitch 2.54 mm)
pins: 1 VSS (power), 2 VDD (power), 3 ~{RESET} (io), 4 ~{SS}/AIN0/PB0 (io), 5 SCK/AIN1/PB1 (io), 6 MISO/AIN2/PB2 (io), 7 MOSI/AIN3/PB3 (io), 8 CLKIN/AIN4/PB4 (io), 9 PA7 (io), 10 PA6/MCO/ICCCLK (io), 11 PA5 (HS)/ICCDATA (io), 12 PA4 (HS) (io), 13 PA3 (HS) (io), 14 PA2 (HS)/ATPWM0 (io), 15 PA1 (HS) (io), 16 PA0 (HS)/LTIC (io)

## ST7PLITE02Y0M6
designator U?
8-Bit MCU with 1.5k Single Voltage FASTROM Memory, 128b RAM, Timers and SPI, 16-Pin SOIC; Note: Pins 4, 7, 9 and 16 are External Interrupt (EI) pins.; Published: 26-May-2004; LatestRevisionDate: 13-Apr-2006; LatestRevisionNote: IPC-7351 Footprint Added.; DatasheetVersion: rev2.5, Dec-2003; PackageVersion: Dec-2003; PackageReference: PSO16; Publisher: Altium Limited; PackageDescription: 16-Pin Plastic Small Outline Integrated Circuit 1.27 mm Pitch; Code_JEDEC: MS-012-AC; Code_IPC: SOIC127P600-16; ComponentLink1Description: Manufacturer Link; ComponentLink1URL: http://www.st.com/; ComponentLink2Description: Datasheet; ComponentLink2URL: http://www.st.com/stonline/products/literature/ds/8348/st7lite0.pdf
footprint PSO16_N (SOIC, 16-Leads, Body 9.9x3.9mm, Pitch 1.27mm, IPC Medium Density)
footprint PSO16_L (SOIC, 16-Leads, Body 9.9x3.9mm, Pitch 1.27mm, IPC High Density)
footprint PSO16_M (SOIC, 16-Leads, Body 9.9x3.9mm, Pitch 1.27mm, IPC Low Density)
3D model PSO16 (16-Pin Plastic Small Outline Integrated Circuit 1.27 mm Pitch)
pins: 1 VSS (power), 2 VDD (power), 3 ~{RESET} (io), 4 ~{SS}/AIN0/PB0 (io), 5 SCK/AIN1/PB1 (io), 6 MISO/AIN2/PB2 (io), 7 MOSI/AIN3/PB3 (io), 8 CLKIN/AIN4/PB4 (io), 9 PA7 (io), 10 PA6/MCO/ICCCLK (io), 11 PA5 (HS)/ICCDATA (io), 12 PA4 (HS) (io), 13 PA3 (HS) (io), 14 PA2 (HS)/ATPWM0 (io), 15 PA1 (HS) (io), 16 PA0 (HS)/LTIC (io)

## ST7PLITE05Y0B6
designator U?
8-Bit MCU with 1.5k Single Voltage FASTROM Memory, 128b RAM, 8-Bit ADC with Op-Amp, Timers and SPI, 16-Pin DIP; Note: Pins 4, 7, 9 and 16 are External Interrupt (EI) pins.; Published: 26-May-2004; LatestRevisionDate: 06-Jun-2005; LatestRevisionNote: Stylized 3D Model Added.; DatasheetVersion: rev2.5, Dec-2003; PackageVersion: Dec-2003; PackageReference: PDIP16; Publisher: Altium Limited; PackageDescription: DIP; 16 Leads; Row Spacing 7.62 mm; Pitch 2.54 mm; ComponentLink1Description: Manufacturer Link; ComponentLink1URL: http://www.st.com/; ComponentLink2Description: Datasheet; ComponentLink2URL: http://www.st.com/stonline/products/literature/ds/8348/st7lite0.pdf
footprint PDIP16 (DIP; 16 Leads; Row Spacing 7.62 mm; Pitch 2.54 mm)
3D model PDIP16 (DIP; 16 Leads; Row Spacing 7.62 mm; Pitch 2.54 mm)
pins: 1 VSS (power), 2 VDD (power), 3 ~{RESET} (io), 4 ~{SS}/AIN0/PB0 (io), 5 SCK/AIN1/PB1 (io), 6 MISO/AIN2/PB2 (io), 7 MOSI/AIN3/PB3 (io), 8 CLKIN/AIN4/PB4 (io), 9 PA7 (io), 10 PA6/MCO/ICCCLK (io), 11 PA5 (HS)/ICCDATA (io), 12 PA4 (HS) (io), 13 PA3 (HS) (io), 14 PA2 (HS)/ATPWM0 (io), 15 PA1 (HS) (io), 16 PA0 (HS)/LTIC (io)

## ST7PLITE05Y0M6
designator U?
8-Bit MCU with 1.5k Single Voltage FASTROM Memory, 128b RAM, 8-Bit ADC with Op-Amp, Timers and SPI, 16-Pin SOIC; Note: Pins 4, 7, 9 and 16 are External Interrupt (EI) pins.; Published: 26-May-2004; LatestRevisionDate: 13-Apr-2006; LatestRevisionNote: IPC-7351 Footprint Added.; DatasheetVersion: rev2.5, Dec-2003; PackageVersion: Dec-2003; PackageReference: PSO16; Publisher: Altium Limited; PackageDescription: 16-Pin Plastic Small Outline Integrated Circuit 1.27 mm Pitch; Code_JEDEC: MS-012-AC; Code_IPC: SOIC127P600-16; ComponentLink1Description: Manufacturer Link; ComponentLink1URL: http://www.st.com/; ComponentLink2Description: Datasheet; ComponentLink2URL: http://www.st.com/stonline/products/literature/ds/8348/st7lite0.pdf
footprint PSO16_N (SOIC, 16-Leads, Body 9.9x3.9mm, Pitch 1.27mm, IPC Medium Density)
footprint PSO16_L (SOIC, 16-Leads, Body 9.9x3.9mm, Pitch 1.27mm, IPC High Density)
footprint PSO16_M (SOIC, 16-Leads, Body 9.9x3.9mm, Pitch 1.27mm, IPC Low Density)
3D model PSO16 (16-Pin Plastic Small Outline Integrated Circuit 1.27 mm Pitch)
pins: 1 VSS (power), 2 VDD (power), 3 ~{RESET} (io), 4 ~{SS}/AIN0/PB0 (io), 5 SCK/AIN1/PB1 (io), 6 MISO/AIN2/PB2 (io), 7 MOSI/AIN3/PB3 (io), 8 CLKIN/AIN4/PB4 (io), 9 PA7 (io), 10 PA6/MCO/ICCCLK (io), 11 PA5 (HS)/ICCDATA (io), 12 PA4 (HS) (io), 13 PA3 (HS) (io), 14 PA2 (HS)/ATPWM0 (io), 15 PA1 (HS) (io), 16 PA0 (HS)/LTIC (io)

## ST7PLITE09Y0B6
designator U?
8-Bit MCU with 1.5k Single Voltage FASTROM Memory, 128b RAM, Data EEPROM, 8-Bit ADC with Op-Amp, Timers and SPI, 16-Pin DIP; Note: Pins 4, 7, 9 and 16 are External Interrupt (EI) pins.; Published: 26-May-2004; LatestRevisionDate: 06-Jun-2005; LatestRevisionNote: Stylized 3D Model Added.; DatasheetVersion: rev2.5, Dec-2003; PackageVersion: Dec-2003; PackageReference: PDIP16; Publisher: Altium Limited; PackageDescription: DIP; 16 Leads; Row Spacing 7.62 mm; Pitch 2.54 mm; ComponentLink1Description: Manufacturer Link; ComponentLink1URL: http://www.st.com/; ComponentLink2Description: Datasheet; ComponentLink2URL: http://www.st.com/stonline/products/literature/ds/8348/st7lite0.pdf
footprint PDIP16 (DIP; 16 Leads; Row Spacing 7.62 mm; Pitch 2.54 mm)
3D model PDIP16 (DIP; 16 Leads; Row Spacing 7.62 mm; Pitch 2.54 mm)
pins: 1 VSS (power), 2 VDD (power), 3 ~{RESET} (io), 4 ~{SS}/AIN0/PB0 (io), 5 SCK/AIN1/PB1 (io), 6 MISO/AIN2/PB2 (io), 7 MOSI/AIN3/PB3 (io), 8 CLKIN/AIN4/PB4 (io), 9 PA7 (io), 10 PA6/MCO/ICCCLK (io), 11 PA5 (HS)/ICCDATA (io), 12 PA4 (HS) (io), 13 PA3 (HS) (io), 14 PA2 (HS)/ATPWM0 (io), 15 PA1 (HS) (io), 16 PA0 (HS)/LTIC (io)

## ST7PLITE09Y0M6
designator U?
8-Bit MCU with 1.5k Single Voltage FASTROM Memory, 128b RAM, Data EEPROM, 8-Bit ADC with Op-Amp, Timers and SPI, 16-Pin SOIC; Note: Pins 4, 7, 9 and 16 are External Interrupt (EI) pins.; Published: 26-May-2004; LatestRevisionDate: 13-Apr-2006; LatestRevisionNote: IPC-7351 Footprint Added.; DatasheetVersion: rev2.5, Dec-2003; PackageVersion: Dec-2003; PackageReference: PSO16; Publisher: Altium Limited; PackageDescription: 16-Pin Plastic Small Outline Integrated Circuit 1.27 mm Pitch; Code_JEDEC: MS-012-AC; Code_IPC: SOIC127P600-16; ComponentLink1Description: Manufacturer Link; ComponentLink1URL: http://www.st.com/; ComponentLink2Description: Datasheet; ComponentLink2URL: http://www.st.com/stonline/products/literature/ds/8348/st7lite0.pdf
footprint PSO16_N (SOIC, 16-Leads, Body 9.9x3.9mm, Pitch 1.27mm, IPC Medium Density)
footprint PSO16_L (SOIC, 16-Leads, Body 9.9x3.9mm, Pitch 1.27mm, IPC High Density)
footprint PSO16_M (SOIC, 16-Leads, Body 9.9x3.9mm, Pitch 1.27mm, IPC Low Density)
3D model PSO16 (16-Pin Plastic Small Outline Integrated Circuit 1.27 mm Pitch)
pins: 1 VSS (power), 2 VDD (power), 3 ~{RESET} (io), 4 ~{SS}/AIN0/PB0 (io), 5 SCK/AIN1/PB1 (io), 6 MISO/AIN2/PB2 (io), 7 MOSI/AIN3/PB3 (io), 8 CLKIN/AIN4/PB4 (io), 9 PA7 (io), 10 PA6/MCO/ICCCLK (io), 11 PA5 (HS)/ICCDATA (io), 12 PA4 (HS) (io), 13 PA3 (HS) (io), 14 PA2 (HS)/ATPWM0 (io), 15 PA1 (HS) (io), 16 PA0 (HS)/LTIC (io)

## ST7PLITES2Y0B6
designator U?
8-Bit MCU with 1k Single Voltage FASTROM Memory, 128b RAM, Timers and SPI, 16-Pin DIP; Note: Pins 4, 7, 9 and 16 are External Interrupt (EI) pins.; Published: 26-May-2004; LatestRevisionDate: 06-Jun-2005; LatestRevisionNote: Stylized 3D Model Added.; DatasheetVersion: rev2.5, Dec-2003; PackageVersion: Dec-2003; PackageReference: PDIP16; Publisher: Altium Limited; PackageDescription: DIP; 16 Leads; Row Spacing 7.62 mm; Pitch 2.54 mm; ComponentLink1Description: Manufacturer Link; ComponentLink1URL: http://www.st.com/; ComponentLink2Description: Datasheet; ComponentLink2URL: http://www.st.com/stonline/products/literature/ds/8348/st7lites.pdf
footprint PDIP16 (DIP; 16 Leads; Row Spacing 7.62 mm; Pitch 2.54 mm)
3D model PDIP16 (DIP; 16 Leads; Row Spacing 7.62 mm; Pitch 2.54 mm)
pins: 1 VSS (power), 2 VDD (power), 3 ~{RESET} (io), 4 ~{SS}/AIN0/PB0 (io), 5 SCK/AIN1/PB1 (io), 6 MISO/AIN2/PB2 (io), 7 MOSI/AIN3/PB3 (io), 8 CLKIN/AIN4/PB4 (io), 9 PA7 (io), 10 PA6/MCO/ICCCLK (io), 11 PA5 (HS)/ICCDATA (io), 12 PA4 (HS) (io), 13 PA3 (HS) (io), 14 PA2 (HS)/ATPWM0 (io), 15 PA1 (HS) (io), 16 PA0 (HS)/LTIC (io)

## ST7PLITES2Y0M6
designator U?
8-Bit MCU with 1k Single Voltage FASTROM Memory, 128b RAM, Timers and SPI, 16-Pin SOIC; Note: Pins 4, 7, 9 and 16 are External Interrupt (EI) pins.; Published: 26-May-2004; LatestRevisionDate: 13-Apr-2006; LatestRevisionNote: IPC-7351 Footprint Added.; DatasheetVersion: rev2.5, Dec-2003; PackageVersion: Dec-2003; PackageReference: PSO16; Publisher: Altium Limited; PackageDescription: 16-Pin Plastic Small Outline Integrated Circuit 1.27 mm Pitch; Code_JEDEC: MS-012-AC; Code_IPC: SOIC127P600-16; ComponentLink1Description: Manufacturer Link; ComponentLink1URL: http://www.st.com/; ComponentLink2Description: Datasheet; ComponentLink2URL: http://www.st.com/stonline/products/literature/ds/8348/st7lites.pdf
footprint PSO16_N (SOIC, 16-Leads, Body 9.9x3.9mm, Pitch 1.27mm, IPC Medium Density)
footprint PSO16_L (SOIC, 16-Leads, Body 9.9x3.9mm, Pitch 1.27mm, IPC High Density)
footprint PSO16_M (SOIC, 16-Leads, Body 9.9x3.9mm, Pitch 1.27mm, IPC Low Density)
3D model PSO16 (16-Pin Plastic Small Outline Integrated Circuit 1.27 mm Pitch)
pins: 1 VSS (power), 2 VDD (power), 3 ~{RESET} (io), 4 ~{SS}/AIN0/PB0 (io), 5 SCK/AIN1/PB1 (io), 6 MISO/AIN2/PB2 (io), 7 MOSI/AIN3/PB3 (io), 8 CLKIN/AIN4/PB4 (io), 9 PA7 (io), 10 PA6/MCO/ICCCLK (io), 11 PA5 (HS)/ICCDATA (io), 12 PA4 (HS) (io), 13 PA3 (HS) (io), 14 PA2 (HS)/ATPWM0 (io), 15 PA1 (HS) (io), 16 PA0 (HS)/LTIC (io)

## ST7PLITES5Y0B6
designator U?
8-Bit MCU with 1k Single Voltage FASTROM Memory, 128b RAM, 8-Bit ADC, Timers and SPI, 16-Pin DIP; Note: Pins 4, 7, 9 and 16 are External Interrupt (EI) pins.; Published: 26-May-2004; LatestRevisionDate: 06-Jun-2005; LatestRevisionNote: Stylized 3D Model Added.; DatasheetVersion: rev2.5, Dec-2003; PackageVersion: Dec-2003; PackageReference: PDIP16; Publisher: Altium Limited; PackageDescription: DIP; 16 Leads; Row Spacing 7.62 mm; Pitch 2.54 mm; ComponentLink1Description: Manufacturer Link; ComponentLink1URL: http://www.st.com/; ComponentLink2Description: Datasheet; ComponentLink2URL: http://www.st.com/stonline/products/literature/ds/8348/st7lites.pdf
footprint PDIP16 (DIP; 16 Leads; Row Spacing 7.62 mm; Pitch 2.54 mm)
3D model PDIP16 (DIP; 16 Leads; Row Spacing 7.62 mm; Pitch 2.54 mm)
pins: 1 VSS (power), 2 VDD (power), 3 ~{RESET} (io), 4 ~{SS}/AIN0/PB0 (io), 5 SCK/AIN1/PB1 (io), 6 MISO/AIN2/PB2 (io), 7 MOSI/AIN3/PB3 (io), 8 CLKIN/AIN4/PB4 (io), 9 PA7 (io), 10 PA6/MCO/ICCCLK (io), 11 PA5 (HS)/ICCDATA (io), 12 PA4 (HS) (io), 13 PA3 (HS) (io), 14 PA2 (HS)/ATPWM0 (io), 15 PA1 (HS) (io), 16 PA0 (HS)/LTIC (io)

## ST7PLITES5Y0M6
designator U?
8-Bit MCU with 1k Single Voltage FASTROM Memory, 128b RAM, 8-Bit ADC, Timers and SPI, 16-Pin SOIC; Note: Pins 4, 7, 9 and 16 are External Interrupt (EI) pins.; Published: 26-May-2004; LatestRevisionDate: 13-Apr-2006; LatestRevisionNote: IPC-7351 Footprint Added.; DatasheetVersion: rev2.5, Dec-2003; PackageVersion: Dec-2003; PackageReference: PSO16; Publisher: Altium Limited; PackageDescription: 16-Pin Plastic Small Outline Integrated Circuit 1.27 mm Pitch; Code_JEDEC: MS-012-AC; Code_IPC: SOIC127P600-16; ComponentLink1Description: Manufacturer Link; ComponentLink1URL: http://www.st.com/; ComponentLink2Description: Datasheet; ComponentLink2URL: http://www.st.com/stonline/products/literature/ds/8348/st7lites.pdf
footprint PSO16_N (SOIC, 16-Leads, Body 9.9x3.9mm, Pitch 1.27mm, IPC Medium Density)
footprint PSO16_L (SOIC, 16-Leads, Body 9.9x3.9mm, Pitch 1.27mm, IPC High Density)
footprint PSO16_M (SOIC, 16-Leads, Body 9.9x3.9mm, Pitch 1.27mm, IPC Low Density)
3D model PSO16 (16-Pin Plastic Small Outline Integrated Circuit 1.27 mm Pitch)
pins: 1 VSS (power), 2 VDD (power), 3 ~{RESET} (io), 4 ~{SS}/AIN0/PB0 (io), 5 SCK/AIN1/PB1 (io), 6 MISO/AIN2/PB2 (io), 7 MOSI/AIN3/PB3 (io), 8 CLKIN/AIN4/PB4 (io), 9 PA7 (io), 10 PA6/MCO/ICCCLK (io), 11 PA5 (HS)/ICCDATA (io), 12 PA4 (HS) (io), 13 PA3 (HS) (io), 14 PA2 (HS)/ATPWM0 (io), 15 PA1 (HS) (io), 16 PA0 (HS)/LTIC (io)

## ST7PSCR1E4M1
designator U?
8-Bit MCU with 16k FASTROM, 768b RAM, Full-Speed USB, 8-Bit ADC, Low Power, Smartcard I/F, Timer, 24-Pin SOIC; Published: 26-May-2004; LatestRevisionDate: 13-Apr-2006; LatestRevisionNote: IPC-7351 Footprint Added.; DatasheetVersion: rev1.3, Mar-2003; PackageVersion: Oct-2001; PackageReference: SO24; Publisher: Altium Limited; PackageDescription: 24-Pin Plastic Small Outline Integrated Circuit 1.27 mm Pitch; ComponentLink1Description: Manufacturer Link; ComponentLink1URL: http://www.st.com/
footprint SO24_N (SOIC, 24-Leads, Body 15.4x7.5mm, Pitch 1.27mm, IPC Medium Density)
footprint SO24_L (SOIC, 24-Leads, Body 15.4x7.5mm, Pitch 1.27mm, IPC High Density)
footprint SO24_M (SOIC, 24-Leads, Body 15.4x7.5mm, Pitch 1.27mm, IPC Low Density)
3D model SO24 (24-Pin Plastic Small Outline Integrated Circuit 1.27 mm Pitch)
pins: 1 DIODE (power), 2 GNDA (power), 3 GND (power), 4 CRDVCC (out), 5 CRDRST (out), 6 CRDCLK (out), 7 C4 (out), 8 CRDIO (io), 9 C8 (out), 10 CRDDET (in), 11 PA0/WAKUP2/ICCDATA (io), 12 PA1/WAKUP2/ICCCLK (io), 13 NC, 14 OSCIN (in), 15 OSCOUT (out), 16 VPP (power), 17 PA6 (in), 18 LED0 (out), 19 DM (io), 20 DP (io), 21 USBVCC (out), 22 VDDA (power), 23 VDD (power), 24 SELF (out)

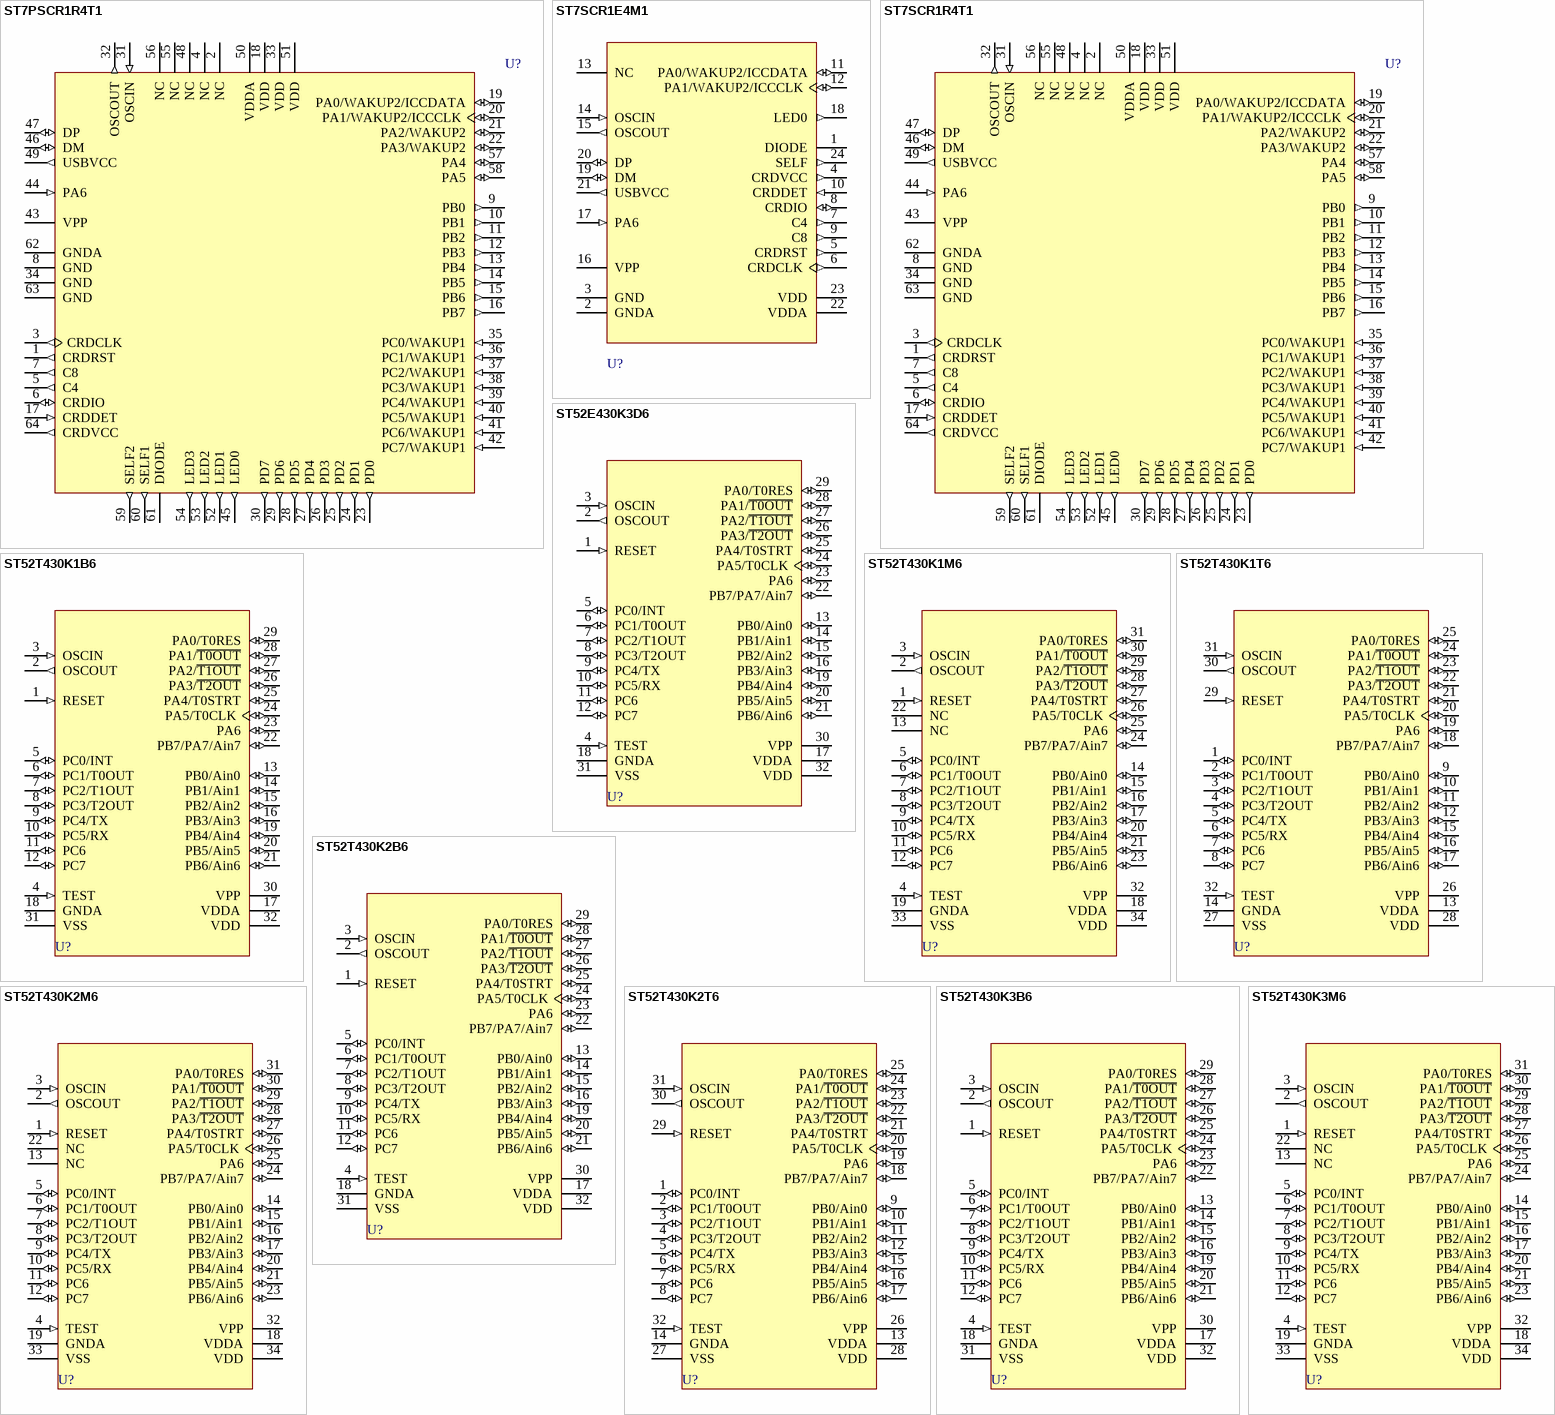
[diagram p2: symbols ST7PSCR1R4T1 to ST52T430K3M6]

## ST7PSCR1R4T1
designator U?
8-Bit MCU with 16k FASTROM, 768b RAM, Full-Speed USB, 8-Bit ADC, Low Power, Smartcard I/F, Timer, 64-Pin TQFP; Note: Pins 35-42 are External Interrupt (EI) pins.; Published: 26-May-2004; LatestRevisionDate: 13-Apr-2006; LatestRevisionNote: IPC-7351 Footprint Added.; DatasheetVersion: rev1.3, Mar-2003; PackageVersion: rev2.4, Jan-2002; PackageReference: TQFP64-0.8; Publisher: Altium Limited; PackageDescription: 64-Pin Thin Quad Flat Pack 0.8 mm Pitch; ComponentLink1Description: Manufacturer Link; ComponentLink1URL: http://www.st.com/
footprint TQFP64-0.8_N (Thin QFP, 64-Leads, Body 14x14mm, Pitch 0.8mm, IPC Medium Density)
footprint TQFP64-0.8_L (Thin QFP, 64-Leads, Body 14x14mm, Pitch 0.8mm, IPC High Density)
footprint TQFP64-0.8_M (Thin QFP, 64-Leads, Body 14x14mm, Pitch 0.8mm, IPC Low Density)
3D model ST7PSCR-TQFP64-0_8 (64-Pin Thin Quad Flat Pack 0.8 mm Pitch)
pins: 1 CRDRST (out), 2 NC, 3 CRDCLK (out), 4 NC, 5 C4 (out), 6 CRDIO (io), 7 C8 (out), 8 GND (power), 9 PB0 (out), 10 PB1 (out), 11 PB2 (out), 12 PB3 (out), 13 PB4 (out), 14 PB5 (out), 15 PB6 (out), 16 PB7 (out), 17 CRDDET (in), 18 VDD (power), 19 PA0/WAKUP2/ICCDATA (io), 20 PA1/WAKUP2/ICCCLK (io), 21 PA2/WAKUP2 (io), 22 PA3/WAKUP2 (io), 23 PD0 (out), 24 PD1 (out), 25 PD2 (out), 26 PD3 (out), 27 PD4 (out), 28 PD5 (out), 29 PD6 (out), 30 PD7 (out), 31 OSCIN (in), 32 OSCOUT (out), 33 VDD (power), 34 GND (power), 35 PC0/WAKUP1 (in), 36 PC1/WAKUP1 (in), 37 PC2/WAKUP1 (in), 38 PC3/WAKUP1 (in), 39 PC4/WAKUP1 (in), 40 PC5/WAKUP1 (in), 41 PC6/WAKUP1 (in), 42 PC7/WAKUP1 (in), 43 VPP (power), 44 PA6 (in), 45 LED0 (out), 46 DM (io), 47 DP (io), 48 NC, 49 USBVCC (out), 50 VDDA (power), 51 VDD (power), 52 LED1 (out), 53 LED2 (out), 54 LED3 (out), 55 NC, 56 NC, 57 PA4 (io), 58 PA5 (io), 59 SELF2 (out), 60 SELF1 (out), 61 DIODE (power), 62 GNDA (power), 63 GND (power), 64 CRDVCC (out)

## ST7SCR1E4M1
designator U?
8-Bit MCU with 16k ROM, 768b RAM, Full-Speed USB, 8-Bit ADC, Low Power, Smartcard I/F, Timer, 24-Pin SOIC; Published: 26-May-2004; LatestRevisionDate: 13-Apr-2006; LatestRevisionNote: IPC-7351 Footprint Added.; DatasheetVersion: rev1.3, Mar-2003; PackageVersion: Oct-2001; PackageReference: SO24; Publisher: Altium Limited; PackageDescription: 24-Pin Plastic Small Outline Integrated Circuit 1.27 mm Pitch; ComponentLink1Description: Manufacturer Link; ComponentLink1URL: http://www.st.com/
footprint SO24_N (SOIC, 24-Leads, Body 15.4x7.5mm, Pitch 1.27mm, IPC Medium Density)
footprint SO24_L (SOIC, 24-Leads, Body 15.4x7.5mm, Pitch 1.27mm, IPC High Density)
footprint SO24_M (SOIC, 24-Leads, Body 15.4x7.5mm, Pitch 1.27mm, IPC Low Density)
3D model SO24 (24-Pin Plastic Small Outline Integrated Circuit 1.27 mm Pitch)
pins: 1 DIODE (power), 2 GNDA (power), 3 GND (power), 4 CRDVCC (out), 5 CRDRST (out), 6 CRDCLK (out), 7 C4 (out), 8 CRDIO (io), 9 C8 (out), 10 CRDDET (in), 11 PA0/WAKUP2/ICCDATA (io), 12 PA1/WAKUP2/ICCCLK (io), 13 NC, 14 OSCIN (in), 15 OSCOUT (out), 16 VPP (power), 17 PA6 (in), 18 LED0 (out), 19 DM (io), 20 DP (io), 21 USBVCC (out), 22 VDDA (power), 23 VDD (power), 24 SELF (out)

## ST7SCR1R4T1
designator U?
8-Bit MCU with 16k ROM, 768b RAM, Full-Speed USB, 8-Bit ADC, Low Power, Smartcard I/F, Timer, 64-Pin TQFP; Note: Pins 35-42 are External Interrupt (EI) pins.; Published: 26-May-2004; LatestRevisionDate: 13-Apr-2006; LatestRevisionNote: IPC-7351 Footprint Added.; DatasheetVersion: rev1.3, Mar-2003; PackageVersion: rev2.4, Jan-2002; PackageReference: TQFP64-0.8; Publisher: Altium Limited; PackageDescription: 64-Pin Thin Quad Flat Pack 0.8 mm Pitch; ComponentLink1Description: Manufacturer Link; ComponentLink1URL: http://www.st.com/
footprint TQFP64-0.8_N (Thin QFP, 64-Leads, Body 14x14mm, Pitch 0.8mm, IPC Medium Density)
footprint TQFP64-0.8_L (Thin QFP, 64-Leads, Body 14x14mm, Pitch 0.8mm, IPC High Density)
footprint TQFP64-0.8_M (Thin QFP, 64-Leads, Body 14x14mm, Pitch 0.8mm, IPC Low Density)
3D model ST7SCR-TQFP64-0_8 (64-Pin Thin Quad Flat Pack 0.8 mm Pitch)
pins: 1 CRDRST (out), 2 NC, 3 CRDCLK (out), 4 NC, 5 C4 (out), 6 CRDIO (io), 7 C8 (out), 8 GND (power), 9 PB0 (out), 10 PB1 (out), 11 PB2 (out), 12 PB3 (out), 13 PB4 (out), 14 PB5 (out), 15 PB6 (out), 16 PB7 (out), 17 CRDDET (in), 18 VDD (power), 19 PA0/WAKUP2/ICCDATA (io), 20 PA1/WAKUP2/ICCCLK (io), 21 PA2/WAKUP2 (io), 22 PA3/WAKUP2 (io), 23 PD0 (out), 24 PD1 (out), 25 PD2 (out), 26 PD3 (out), 27 PD4 (out), 28 PD5 (out), 29 PD6 (out), 30 PD7 (out), 31 OSCIN (in), 32 OSCOUT (out), 33 VDD (power), 34 GND (power), 35 PC0/WAKUP1 (in), 36 PC1/WAKUP1 (in), 37 PC2/WAKUP1 (in), 38 PC3/WAKUP1 (in), 39 PC4/WAKUP1 (in), 40 PC5/WAKUP1 (in), 41 PC6/WAKUP1 (in), 42 PC7/WAKUP1 (in), 43 VPP (power), 44 PA6 (in), 45 LED0 (out), 46 DM (io), 47 DP (io), 48 NC, 49 USBVCC (out), 50 VDDA (power), 51 VDD (power), 52 LED1 (out), 53 LED2 (out), 54 LED3 (out), 55 NC, 56 NC, 57 PA4 (io), 58 PA5 (io), 59 SELF2 (out), 60 SELF1 (out), 61 DIODE (power), 62 GNDA (power), 63 GND (power), 64 CRDVCC (out)

## ST52E430K3D6
designator U?
8-Bit EPROM Intelligent Controller Unit (ICU) with Three Timer/PWM, ADC and SCI, 32-Pin CSDIP; Published: 26-May-2004; LatestRevisionDate: 06-Jun-2005; LatestRevisionNote: Stylized 3D Model Added.; DatasheetVersion: rev1.9, May-2003; PackageVersion: Oct-2001; PackageReference: CSDIP32W; Publisher: Altium Limited; PackageDescription: DIP, Ceramic, Shrink; 32 Leads; Row Spacing 10.16 mm; Pitch 1.78 mm; ComponentLink1Description: Manufacturer Link; ComponentLink1URL: http://www.st.com/
footprint CSDIP32W (DIP, Ceramic, Shrink; 32 Leads; Row Spacing 10.16 mm; Pitch 1.78 mm)
3D model CSDIP32W (DIP, Ceramic, Shrink; 32 Leads; Row Spacing 10.16 mm; Pitch 1.78 mm)
pins: 1 RESET (in), 2 OSCOUT (out), 3 OSCIN (in), 4 TEST (in), 5 PC0/INT (io), 6 PC1/T0OUT (io), 7 PC2/T1OUT (io), 8 PC3/T2OUT (io), 9 PC4/TX (io), 10 PC5/RX (io), 11 PC6 (io), 12 PC7 (io), 13 PB0/Ain0 (io), 14 PB1/Ain1 (io), 15 PB2/Ain2 (io), 16 PB3/Ain3 (io), 17 VDDA (power), 18 GNDA (power), 19 PB4/Ain4 (io), 20 PB5/Ain5 (io), 21 PB6/Ain6 (io), 22 PB7/PA7/Ain7 (io), 23 PA6 (io), 24 PA5/T0CLK (io), 25 PA4/T0STRT (io), 26 PA3/~{T2OUT} (io), 27 PA2/~{T1OUT} (io), 28 PA1/~{T0OUT} (io), 29 PA0/T0RES (io), 30 VPP (power), 31 VSS (power), 32 VDD (power)

## ST52T430K1B6
designator U?
8-Bit OTP Intelligent Controller Unit (ICU) with Three Timer/PWM, ADC and SCI, 32-Pin PSDIP; Published: 26-May-2004; LatestRevisionDate: 06-Jun-2005; LatestRevisionNote: Stylized 3D Model Added.; DatasheetVersion: rev1.9, May-2003; PackageVersion: rev1.7, Oct-2001; PackageReference: PSDIP32; Publisher: Altium Limited; PackageDescription: DIP, Plastic Shrink; 32 Leads; Row Spacing 10.16 mm; Pitch 1.78 mm; ComponentLink1Description: Manufacturer Link; ComponentLink1URL: http://www.st.com/
footprint PSDIP32 (DIP, Plastic Shrink; 32 Leads; Row Spacing 10.16 mm; Pitch 1.78 mm)
3D model PSDIP32 (DIP, Plastic Shrink; 32 Leads; Row Spacing 10.16 mm; Pitch 1.78 mm)
pins: 1 RESET (in), 2 OSCOUT (out), 3 OSCIN (in), 4 TEST (in), 5 PC0/INT (io), 6 PC1/T0OUT (io), 7 PC2/T1OUT (io), 8 PC3/T2OUT (io), 9 PC4/TX (io), 10 PC5/RX (io), 11 PC6 (io), 12 PC7 (io), 13 PB0/Ain0 (io), 14 PB1/Ain1 (io), 15 PB2/Ain2 (io), 16 PB3/Ain3 (io), 17 VDDA (power), 18 GNDA (power), 19 PB4/Ain4 (io), 20 PB5/Ain5 (io), 21 PB6/Ain6 (io), 22 PB7/PA7/Ain7 (io), 23 PA6 (io), 24 PA5/T0CLK (io), 25 PA4/T0STRT (io), 26 PA3/~{T2OUT} (io), 27 PA2/~{T1OUT} (io), 28 PA1/~{T0OUT} (io), 29 PA0/T0RES (io), 30 VPP (power), 31 VSS (power), 32 VDD (power)

## ST52T430K1M6
designator U?
8-Bit OTP Intelligent Controller Unit (ICU) with Three Timer/PWM, ADC and SCI, 34-Pin SSO; Published: 26-May-2004; LatestRevisionDate: 13-Apr-2006; LatestRevisionNote: IPC-7351 Footprint Added.; DatasheetVersion: rev1.9, May-2003; PackageVersion: rev1.7, Oct-2001; PackageReference: SO34S; Publisher: Altium Limited; PackageDescription: 34-Pin Small Outline Package 1.02 mm Pitch; ComponentLink1Description: Manufacturer Link; ComponentLink1URL: http://www.st.com/
footprint SO34S_N (SOP, 34-Leads, Body 17.9x7.51mm, Pitch 1.02mm, IPC Medium Density)
footprint SO34S_L (SOP, 34-Leads, Body 17.9x7.51mm, Pitch 1.02mm, IPC High Density)
footprint SO34S_M (SOP, 34-Leads, Body 17.9x7.51mm, Pitch 1.02mm, IPC Low Density)
3D model SO34S (34-Pin Small Outline Package 1.02 mm Pitch)
pins: 1 RESET (in), 2 OSCOUT (out), 3 OSCIN (in), 4 TEST (in), 5 PC0/INT (io), 6 PC1/T0OUT (io), 7 PC2/T1OUT (io), 8 PC3/T2OUT (io), 9 PC4/TX (io), 10 PC5/RX (io), 11 PC6 (io), 12 PC7 (io), 13 NC, 14 PB0/Ain0 (io), 15 PB1/Ain1 (io), 16 PB2/Ain2 (io), 17 PB3/Ain3 (io), 18 VDDA (power), 19 GNDA (power), 20 PB4/Ain4 (io), 21 PB5/Ain5 (io), 22 NC, 23 PB6/Ain6 (io), 24 PB7/PA7/Ain7 (io), 25 PA6 (io), 26 PA5/T0CLK (io), 27 PA4/T0STRT (io), 28 PA3/~{T2OUT} (io), 29 PA2/~{T1OUT} (io), 30 PA1/~{T0OUT} (io), 31 PA0/T0RES (io), 32 VPP (power), 33 VSS (power), 34 VDD (power)

## ST52T430K1T6
designator U?
8-Bit OTP Intelligent Controller Unit (ICU) with Three Timer/PWM, ADC and SCI, 32-Pin TQFP; Published: 26-May-2004; LatestRevisionDate: 13-Apr-2006; LatestRevisionNote: IPC-7351 Footprint Added.; DatasheetVersion: rev1.9, May-2003; PackageVersion: Oct-1997; PackageReference: TQFP32; Publisher: Altium Limited; PackageDescription: 32-Pin Thin Quad Flat Pack 0.8 mm Pitch; ComponentLink1Description: Manufacturer Link; ComponentLink1URL: http://www.st.com/
footprint TQFP32_N (Thin QFP, 32-Leads, Body 7x7mm, Pitch 0.8mm, IPC Medium Density)
footprint TQFP32_L (Thin QFP, 32-Leads, Body 7x7mm, Pitch 0.8mm, IPC High Density)
footprint TQFP32_M (Thin QFP, 32-Leads, Body 7x7mm, Pitch 0.8mm, IPC Low Density)
3D model ST52T430-TQFP32 (32-Pin Thin Quad Flat Pack 0.8 mm Pitch)
pins: 1 PC0/INT (io), 2 PC1/T0OUT (io), 3 PC2/T1OUT (io), 4 PC3/T2OUT (io), 5 PC4/TX (io), 6 PC5/RX (io), 7 PC6 (io), 8 PC7 (io), 9 PB0/Ain0 (io), 10 PB1/Ain1 (io), 11 PB2/Ain2 (io), 12 PB3/Ain3 (io), 13 VDDA (power), 14 GNDA (power), 15 PB4/Ain4 (io), 16 PB5/Ain5 (io), 17 PB6/Ain6 (io), 18 PB7/PA7/Ain7 (io), 19 PA6 (io), 20 PA5/T0CLK (io), 21 PA4/T0STRT (io), 22 PA3/~{T2OUT} (io), 23 PA2/~{T1OUT} (io), 24 PA1/~{T0OUT} (io), 25 PA0/T0RES (io), 26 VPP (power), 27 VSS (power), 28 VDD (power), 29 RESET (in), 30 OSCOUT (out), 31 OSCIN (in), 32 TEST (in)

## ST52T430K2B6
designator U?
8-Bit OTP Intelligent Controller Unit (ICU) with Three Timer/PWM, ADC and SCI, 32-Pin PSDIP; Published: 26-May-2004; LatestRevisionDate: 06-Jun-2005; LatestRevisionNote: Stylized 3D Model Added.; DatasheetVersion: rev1.9, May-2003; PackageVersion: rev1.7, Oct-2001; PackageReference: PSDIP32; Publisher: Altium Limited; PackageDescription: DIP, Plastic Shrink; 32 Leads; Row Spacing 10.16 mm; Pitch 1.78 mm; ComponentLink1Description: Manufacturer Link; ComponentLink1URL: http://www.st.com/
footprint PSDIP32 (DIP, Plastic Shrink; 32 Leads; Row Spacing 10.16 mm; Pitch 1.78 mm)
3D model PSDIP32 (DIP, Plastic Shrink; 32 Leads; Row Spacing 10.16 mm; Pitch 1.78 mm)
pins: 1 RESET (in), 2 OSCOUT (out), 3 OSCIN (in), 4 TEST (in), 5 PC0/INT (io), 6 PC1/T0OUT (io), 7 PC2/T1OUT (io), 8 PC3/T2OUT (io), 9 PC4/TX (io), 10 PC5/RX (io), 11 PC6 (io), 12 PC7 (io), 13 PB0/Ain0 (io), 14 PB1/Ain1 (io), 15 PB2/Ain2 (io), 16 PB3/Ain3 (io), 17 VDDA (power), 18 GNDA (power), 19 PB4/Ain4 (io), 20 PB5/Ain5 (io), 21 PB6/Ain6 (io), 22 PB7/PA7/Ain7 (io), 23 PA6 (io), 24 PA5/T0CLK (io), 25 PA4/T0STRT (io), 26 PA3/~{T2OUT} (io), 27 PA2/~{T1OUT} (io), 28 PA1/~{T0OUT} (io), 29 PA0/T0RES (io), 30 VPP (power), 31 VSS (power), 32 VDD (power)

## ST52T430K2M6
designator U?
8-Bit OTP Intelligent Controller Unit (ICU) with Three Timer/PWM, ADC and SCI, 34-Pin SSO; Published: 26-May-2004; LatestRevisionDate: 13-Apr-2006; LatestRevisionNote: IPC-7351 Footprint Added.; DatasheetVersion: rev1.9, May-2003; PackageVersion: rev1.7, Oct-2001; PackageReference: SO34S; Publisher: Altium Limited; PackageDescription: 34-Pin Small Outline Package 1.02 mm Pitch; ComponentLink1Description: Manufacturer Link; ComponentLink1URL: http://www.st.com/
footprint SO34S_N (SOP, 34-Leads, Body 17.9x7.51mm, Pitch 1.02mm, IPC Medium Density)
footprint SO34S_L (SOP, 34-Leads, Body 17.9x7.51mm, Pitch 1.02mm, IPC High Density)
footprint SO34S_M (SOP, 34-Leads, Body 17.9x7.51mm, Pitch 1.02mm, IPC Low Density)
3D model SO34S (34-Pin Small Outline Package 1.02 mm Pitch)
pins: 1 RESET (in), 2 OSCOUT (out), 3 OSCIN (in), 4 TEST (in), 5 PC0/INT (io), 6 PC1/T0OUT (io), 7 PC2/T1OUT (io), 8 PC3/T2OUT (io), 9 PC4/TX (io), 10 PC5/RX (io), 11 PC6 (io), 12 PC7 (io), 13 NC, 14 PB0/Ain0 (io), 15 PB1/Ain1 (io), 16 PB2/Ain2 (io), 17 PB3/Ain3 (io), 18 VDDA (power), 19 GNDA (power), 20 PB4/Ain4 (io), 21 PB5/Ain5 (io), 22 NC, 23 PB6/Ain6 (io), 24 PB7/PA7/Ain7 (io), 25 PA6 (io), 26 PA5/T0CLK (io), 27 PA4/T0STRT (io), 28 PA3/~{T2OUT} (io), 29 PA2/~{T1OUT} (io), 30 PA1/~{T0OUT} (io), 31 PA0/T0RES (io), 32 VPP (power), 33 VSS (power), 34 VDD (power)